# Altium schematic symbol library D882.SchLib: 1 symbol
Pins are listed as number, name and electrical type; pins without a type are passive.

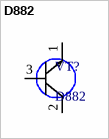
[diagram p0: symbol D882]

## D882
designator VT?
footprint D882
pins: 1 E, 2 C, 3 B